# EAGLE library part WE-LAN_HV_10/100_BASETX_749014010 (library Wuerth_Elektronik_eiSos_ v6.5)
LAN-Transformer WE-LAN HV 10/100 Base Tx - Compliant with IEEE 802.3 standards - 4 kV Hipot Test - SMD -- Ethernet -- Compliant with most IC's for ethernet applications like Intel, AMD, Globespan and Realtek -- Hub, Router, Switches, medical applications
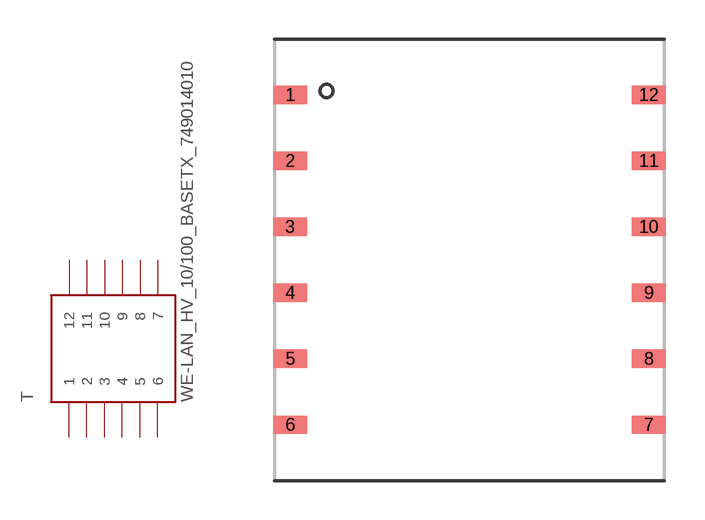
[diagram p44: symbol with the pads of WE-LAN_HV_10/100_BASETX_749014010; footprint WE-LAN_HV_10/100_BASETX_749014010]

Designator prefix T

## WE-LAN_HV_10/100_BASETX_749014010  [WE-LAN_HV_10/100_BASETX_749014010]
1  1  pas
2  2  pas
3  3  pas
4  4  pas
5  5  pas
6  6  pas
7  7  pas
8  8  pas
9  9  pas
10  10  pas
11  11  pas
12  12  pas

## Footprint WE-LAN_HV_10/100_BASETX_749014010 (pad centres in mm)
LAN-Transformer WE-LAN HV 10/100 Base Tx
smd 1.3 x 0.7: 1 -6.9,6.35; 2 -6.9,3.81; 3 -6.9,1.27; 4 -6.9,-1.27; 5 -6.9,-3.81; 6 -6.9,-6.35; 7 6.9,-6.35; 8 6.9,-3.81; 9 6.9,-1.27; 10 6.9,1.27; 11 6.9,3.81; 12 6.9,6.35